# EAGLE library part L293D (library ads)
L293D Quad Half H-Bridge with integrated diodes
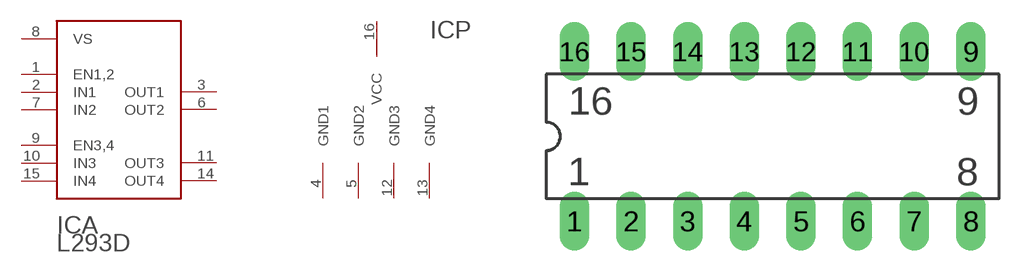
[diagram p12: symbol with the pads of DIP16; footprint DIP16]

Designator prefix IC; gates A=L293 P=POWER4GN

## L293D  [DIP16]
1  A:EN1,2  in
2  A:IN1  in
3  A:OUT1  out
4  P:GND1  pwr
5  P:GND2  pwr
6  A:OUT2  out
7  A:IN2  in
8  A:VS  pwr
9  A:EN3,4  in
10  A:IN3  in
11  A:OUT3  out
12  P:GND3  pwr
13  P:GND4  pwr
14  A:OUT4  out
15  A:IN4  in
16  P:VCC  pwr

## Footprint DIP16 (pad centres in mm)
drill 0.813 long: 1 -8.89,-3.81; 2 -6.35,-3.81; 3 -3.81,-3.81; 4 -1.27,-3.81; 5 1.27,-3.81; 6 3.81,-3.81; 7 6.35,-3.81; 8 8.89,-3.81; 9 8.89,3.81; 10 6.35,3.81; 11 3.81,3.81; 12 1.27,3.81; 13 -1.27,3.81; 14 -3.81,3.81; 15 -6.35,3.81; 16 -8.89,3.81